# Altium schematic symbol library MikesDick.SchLib: 1 symbol
Pins are listed as number, name and electrical type; pins without a type are passive.

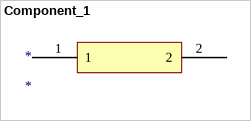
[diagram p0: symbol Component_1]

## Component_1
designator *
footprint Model Name (Footprint not found)
pins: 1, 2